# EAGLE library part B14B-ZR (library jst)
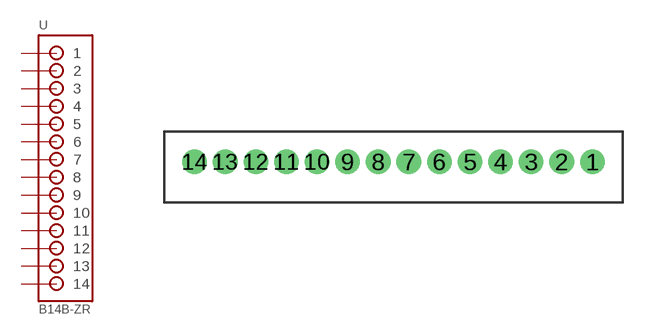
[diagram p1: symbol with the pads of B14B-ZR; footprint B14B-ZR]

Designator prefix -

## B14B-ZR  [B14B-ZR]
1  1
2  2
3  3
4  4
5  5
6  6
7  7
8  8
9  9
10  10
11  11
12  12
13  13
14  14

## Footprint B14B-ZR (pad centres in mm)
drill 0.7: 1 9.75,0; 2 8.25,0; 3 6.75,0; 4 5.25,0; 5 3.75,0; 6 2.25,0; 7 0.75,0; 8 -0.75,0; 9 -2.25,0; 10 -3.75,0; 11 -5.25,0; 12 -6.75,0; 13 -8.25,0; 14 -9.75,0